# EAGLE library part ALPS205 (library akihabara)
Alps rotary switch SRRN51800 For mounting on the bottom side.
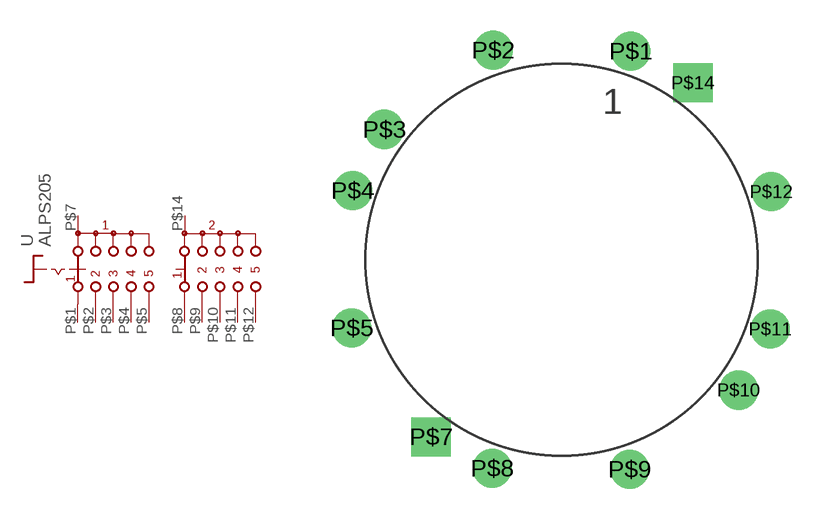
[diagram p1: symbol with the pads of ALPS205; footprint ALPS205]

Designator prefix -

## ALPS205  [ALPS205]
P$1  11  pas
P$2  21  pas
P$3  31  pas
P$4  41  pas
P$5  51  pas
P$7  C1  pas
P$8  12  pas
P$9  22  pas
P$10  32  pas
P$11  42  pas
P$12  52  pas
P$14  C2  pas

## Footprint ALPS205 (pad centres in mm)
drill 0.4 pad 1.93 round: P$1 3.4,10.25; P$2 -3.35,10.3; P$3 -8.7,6.4; P$4 -10.25,3.4; P$5 -10.3,-3.35; P$8 -3.4,-10.25; P$9 3.35,-10.3; P$10 8.7,-6.4; P$11 10.25,-3.4; P$12 10.3,3.35
drill 0.4 pad 1.93 square: P$7 -6.4,-8.7; P$14 6.45,8.7